# EAGLE library part EM14R0D-R20-L064S (library EM14R0D-R20-L064S)
Optical Encoder Rotary Incremental Slot 0.011N.m Straight Digital Square Wave Through Hole PC Pin 16CPR Source: Datasheet <https://bourns.com/docs/product-datasheets/em14.pdf?sfvrsn=6c1089f1_12>
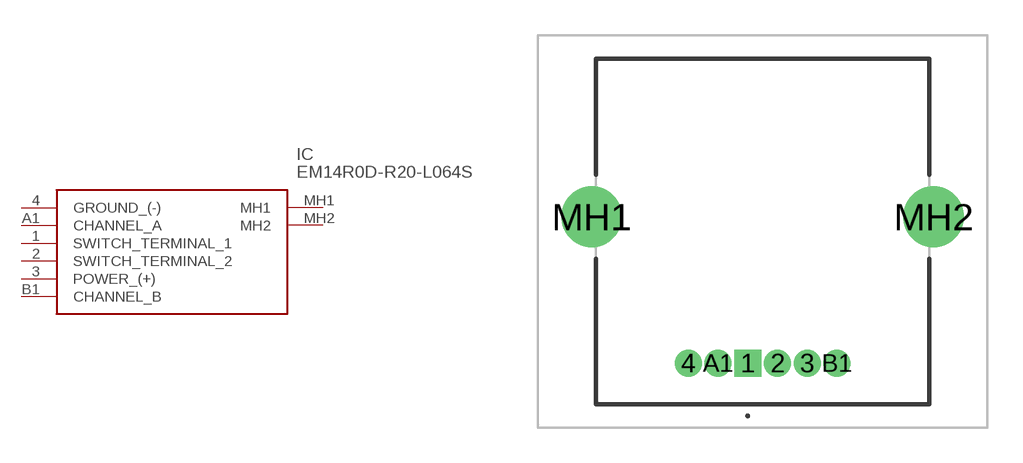
[diagram p0: symbol with the pads of EM14R0DR20L064S; footprint EM14R0DR20L064S]

Designator prefix IC

## EM14R0D-R20-L064S (Description: Optical Encoder Rotary Incremental Slot 0.011N.m Straight Digital Square Wave Through Hole PC Pin 16CPR; Height: 30.03mm; Manufacturer_Name: Bourns; Manufacturer_Part_Number: EM14R0D-R20-L064S)  [EM14R0DR20L064S]
1  SWITCH_TERMINAL_1
2  SWITCH_TERMINAL_2
3  POWER_(+)
4  GROUND_(-)
A1  CHANNEL_A
B1  CHANNEL_B
MH1  MH1
MH2  MH2

## Footprint EM14R0DR20L064S (pad centres in mm)
EM14R0D-R20-L064S
drill 0.64 pad 1.1 square: 1 0,0
drill 0.64 pad 1.1: 2 1.27,0; 3 2.54,0; 4 -2.54,0; A1 -1.27,0; B1 3.81,0
drill 1.73 pad 2.595: MH1 -6.67,6.25; MH2 7.94,6.25